# EAGLE library part USBLC6-2SC6 (library cTechnologies_diodes-transils)
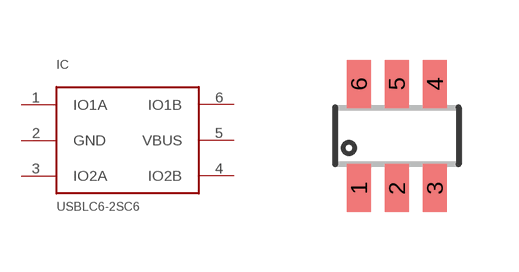
[diagram p0: symbol with the pads of SOT23-6; footprint SOT23-6]

Designator prefix IC

## USBLC6-2SC6  [SOT23-6]
1  IO1A
2  GND
3  IO2A
4  IO2B
5  VBUS
6  IO1B

## Footprint SOT23-6 (pad centres in mm)
Small Outline Transistor, 5 lead
smd 0.6 x 1.2: 1 -0.95,-1.306; 2 0,-1.306; 3 0.95,-1.306; 4 0.95,1.306; 5 0,1.306; 6 -0.95,1.306